# EAGLE library part DUAL-MOSFET-PCHANNEL2D (library Cool_Electricity)
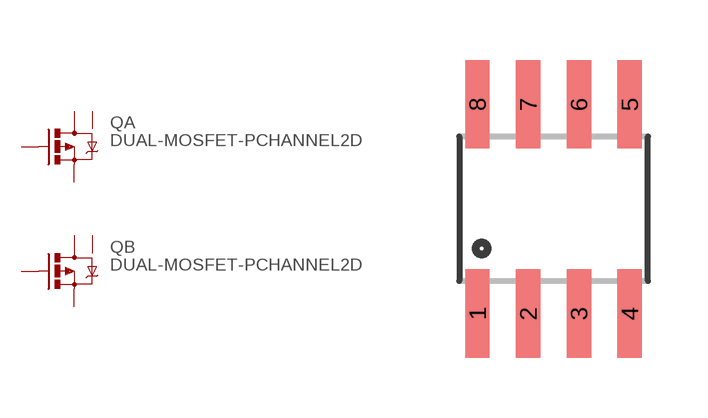
[diagram p12: symbol with the pads of SO08; footprint SO08]

Designator prefix Q; gates A=MOSFET-PCHANNEL2D B=MOSFET-PCHANNEL2D

## DUAL-MOSFET-PCHANNEL2D  [SO08]
1  A:S  pas
2  A:G  pas
3  B:S  pas
4  B:G  pas
5  B:D  pas
6  B:D  pas
7  A:D  pas
8  A:D  pas

## Footprint SO08 (pad centres in mm)
Small Outline Package Fits JEDEC packages (narrow SOIC-8)
smd 0.61 x 2.21: 1 -1.905,-2.616; 2 -0.635,-2.616; 3 0.635,-2.616; 4 1.905,-2.616; 5 1.905,2.616; 6 0.635,2.616; 7 -0.635,2.616; 8 -1.905,2.616